# Altium footprint library IRM-30-12.PcbLib: 1 footprints
Each footprint in its own frame and in the unit in brackets; x right, y up, seen from the top. Pads: shape width x height; smd on the part's side, far side on the other; paste and mask are expansions set on the pad; w line width, h text height; cw(c..) or ccw(c..) is an arc to the next point about the centre after c.
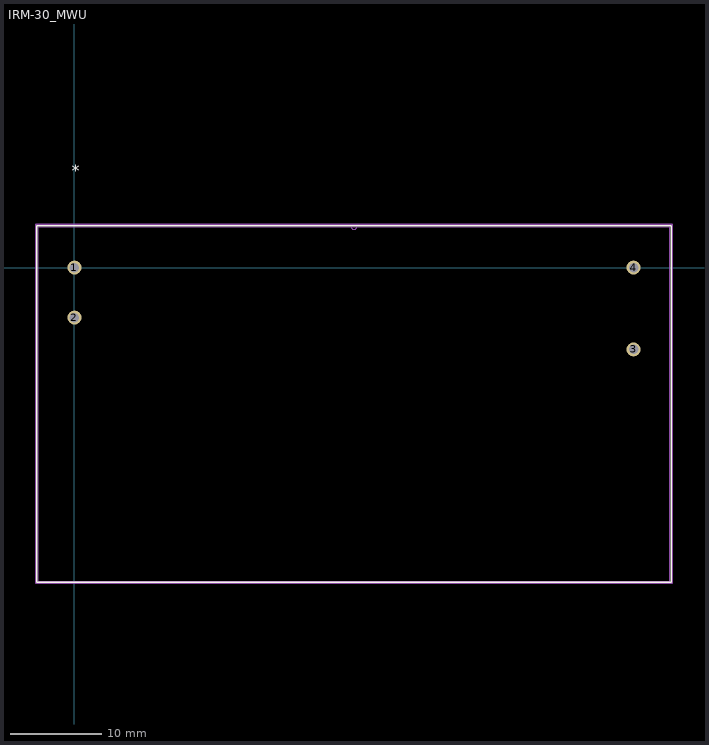
[diagram p0: the footprint, top view; thin cyan lines are the x and y axes]

## IRM-30_MWU [mil]
pads (4):
  round 61 / inner round 60 / far side round 61 hole 41 paste-99999 mask+0: 1(0,0) 2(0,-216.54) 3(2421.26,-354.33) 4(2421.26,0)
Top Overlay:
  lines w6: -162.37,-1362.83 -162.37,182.17 2583.63,182.17 2583.63,-1362.83 -162.37,-1362.83
  text "*" at -12.5,396.19 h50
Mechanical 13:
  lines w0: 1198.63,177.17 ccw(c1210.63,177.17) 1222.63,177.17
  lines w1: -157.37,-1357.83 -157.37,177.17 2578.63,177.17 2578.63,-1357.83 -157.37,-1357.83
  text "*" at -12.5,41.86 h50
Mechanical 15:
  lines w6: -167.37,-1367.83 2588.63,-1367.83 2588.63,187.17 -167.37,187.17 -167.37,-1367.83
3D body "IRM-30-12.stp": height 935.54, standoff -147.14, extent -157.48,-1358.27 2578.74,177.17